# EAGLE library part MAX9768 (library Custom_Library)
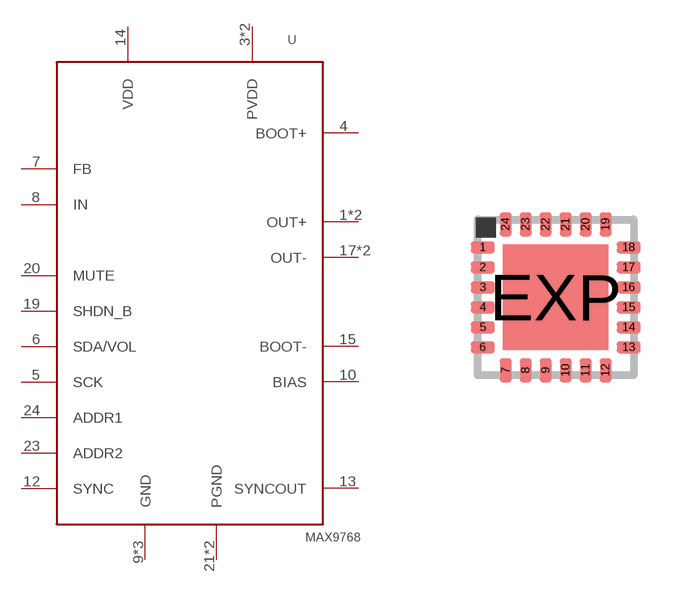
[diagram p7: symbol with the pads of TQFN24-EP; footprint TQFN24-EP]

Designator prefix U

## MAX9768  [TQFN24-EP]
1  OUT+
2  OUT+
3  PVDD
4  BOOT+
5  SCK
6  SDA/VOL
7  FB
8  IN
9  GND
10  BIAS
11  GND
12  SYNC
13  SYNCOUT
14  VDD
15  BOOT-
16  PVDD
17  OUT-
18  OUT-
19  SHDN_B
20  MUTE
21  PGND
22  PGND
23  ADDR2
24  ADDR1
EXP  GND

## Footprint TQFN24-EP (pad centres in mm)
smd 0.6 x 0.3: 1 -1.825,1.25; 2 -1.825,0.75; 3 -1.825,0.25; 4 -1.825,-0.25; 5 -1.825,-0.75; 6 -1.825,-1.25; 13 1.825,-1.25; 14 1.825,-0.75; 15 1.825,-0.25; 16 1.825,0.25; 17 1.825,0.75; 18 1.825,1.25
smd 0.3 x 0.6: 7 -1.25,-1.825; 8 -0.75,-1.825; 9 -0.25,-1.825; 10 0.25,-1.825; 11 0.75,-1.825; 12 1.25,-1.825; 19 1.25,1.825; 20 0.75,1.825; 21 0.25,1.825; 22 -0.25,1.825; 23 -0.75,1.825; 24 -1.25,1.825
smd 2.63 x 2.63: EXP 0,0